# Altium integrated library Bel_rst_fuse_2Ahold.IntLib: 1 symbol
Pins are listed as number, name and electrical type; pins without a type are passive.

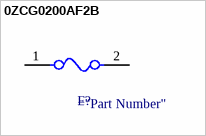
[diagram p0: symbol 0ZCG0200AF2B]

## 0ZCG0200AF2B
designator F?  (value not drawn)
pins: 1, 2